# EAGLE library part ISP_SMT_MINI (library AVRisp)
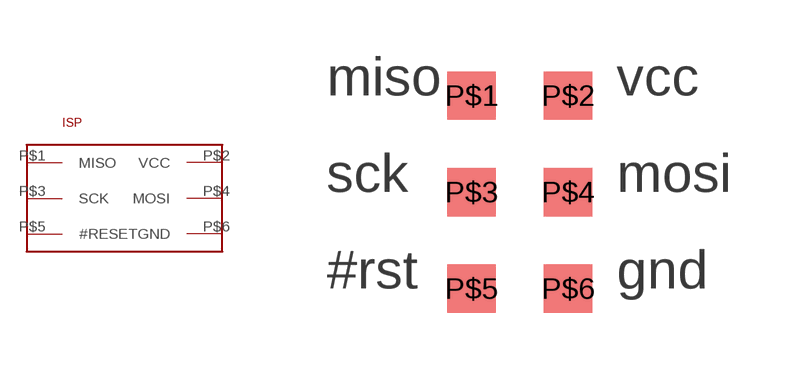
[diagram p0: symbol with the pads of SMT-MINI; footprint SMT-MINI]

Designator prefix -

## ISP_SMT_MINI  [SMT-MINI]
P$1  MISO
P$2  VCC
P$3  SCK
P$4  MOSI
P$5  #RESET
P$6  GND

## Footprint SMT-MINI (pad centres in mm)
smd 1.27 x 1.27: P$1 0,0; P$2 2.54,0; P$3 0,-2.54; P$4 2.54,-2.54; P$5 0,-5.08; P$6 2.54,-5.08